# Altium footprint library actives.PcbLib: 34 footprints (part 1 of 3)
Each footprint in its own frame and in the unit in brackets; x right, y up, seen from the top. Pads: shape width x height; smd on the part's side, far side on the other; paste and mask are expansions set on the pad; w line width, h text height; cw(c..) or ccw(c..) is an arc to the next point about the centre after c.
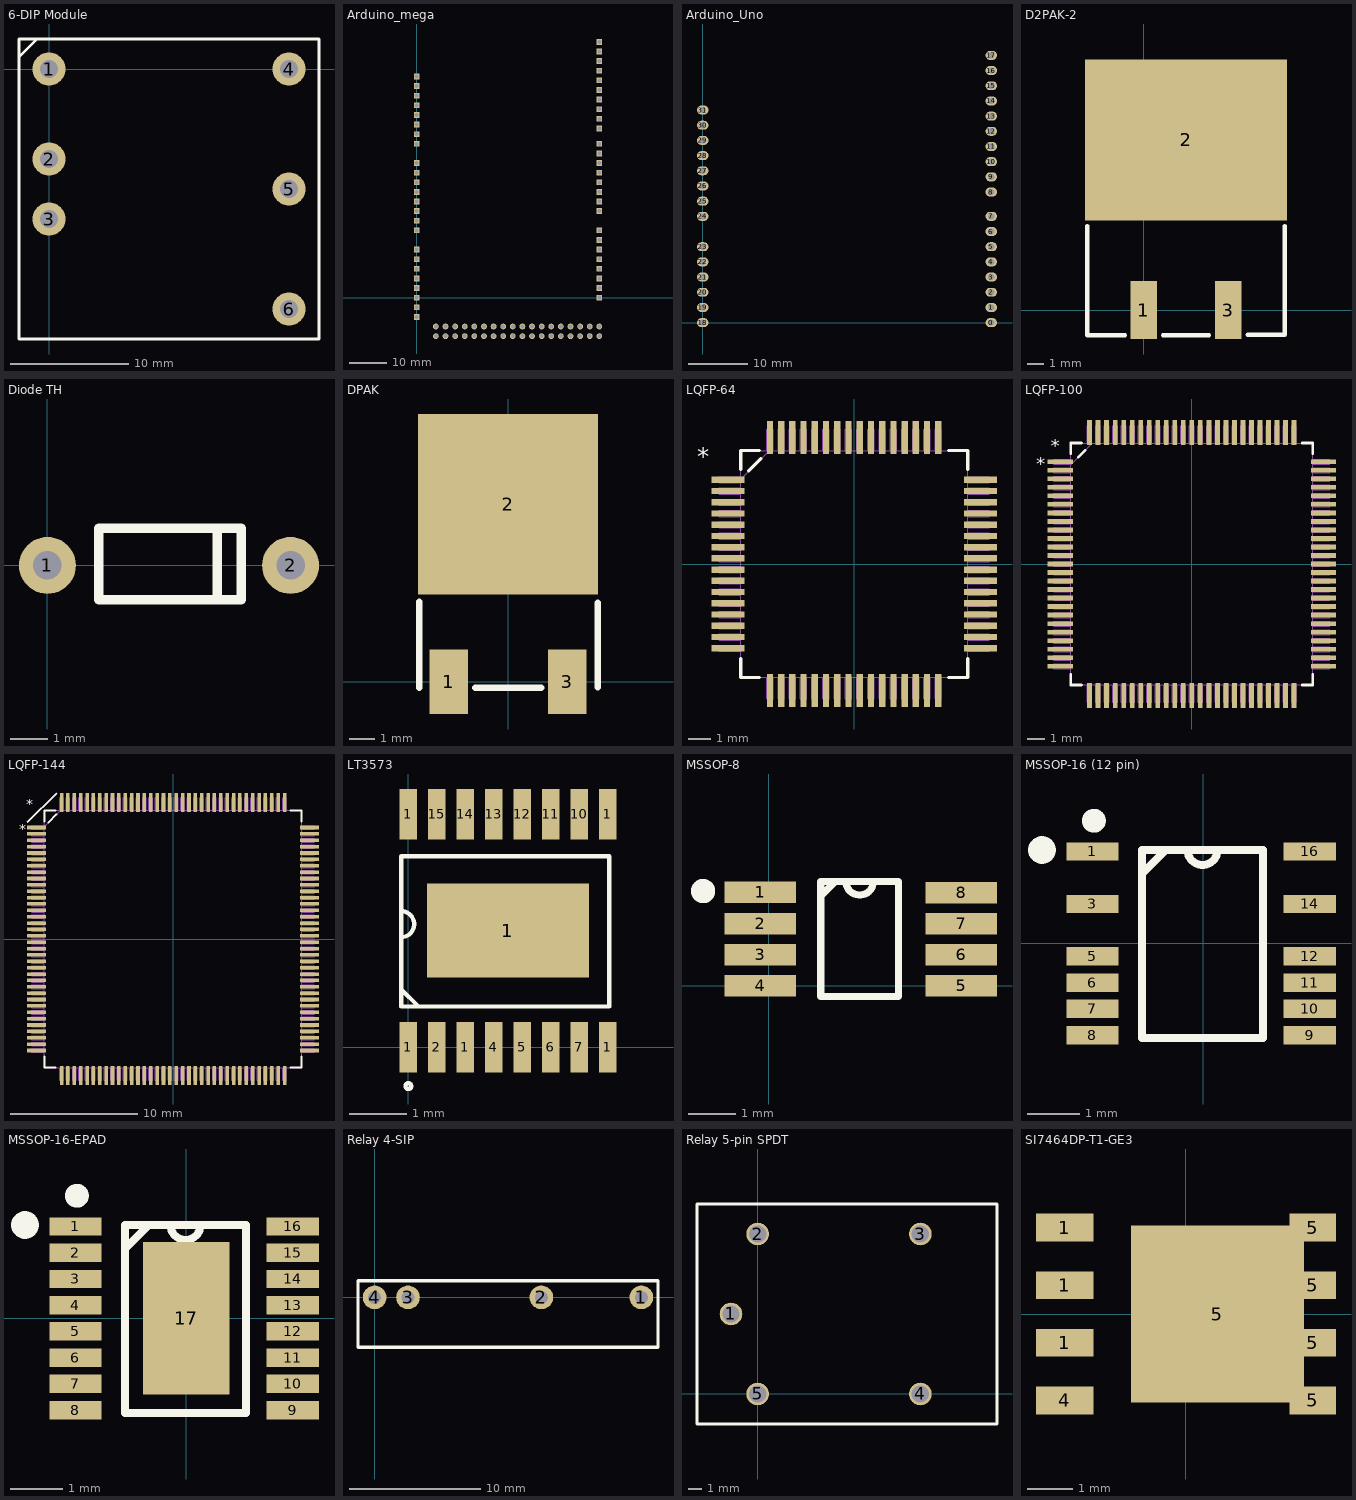
[diagram p0: the footprints below, top view; thin cyan lines are the x and y axes]

## 6-DIP Module [mm]
pads (6):
  round 2.8 hole 1.5: 1(0,0) 2(0,-7.62) 3(0,-12.7) 4(20.32,0) 5(20.32,-10.16) 6(20.32,-20.32)
Top Overlay:
  lines w0.075: -2.54,1.016 -2.54,0.711 -2.54,0.889 -2.515,0.889
  lines w0.254: -2.54,1.016 -1.016,2.54 ; -2.54,-22.86 22.86,-22.86 22.86,2.54 -2.54,2.54 -2.54,-22.86

## Arduino_mega [mil]
pads (86):
  rect 60x60 hole 41.3: 0(1900,900) 1(1900,1000) 2(1900,1100) 3(1900,1200) 4(1900,1300) 5(1900,1400) 6(1900,1500) 7(1900,1600) 8(1900,1760) 9(1900,1860) 10(1900,1960) 11(1900,2060) 12(1900,2160) 13(1900,2260) 14(1900,700) 15(1900,600) 16(1900,500) 17(1900,400) 18(1900,300) 19(1900,200) 20(1900,100) 21(1900,0) 54(1900,2660) 55(1900,2560) 56(1900,2460) 57(1900,2360) 62(0,2300) 63(0,2200) 64(0,2100) 65(0,2000) 66(0,1900) 67(0,1800) 68(0,1700) 69(0,1600) 70(0,1400) 71(0,1300) 72(0,1200) 73(0,1100) 74(0,1000) 75(0,900) 76(0,800) 77(0,700) 78(0,500) 79(0,400) 80(0,300) 81(0,200) 82(0,100) 83(0,0) 84(0,-100) 85(0,-200)
  round 60 hole 41.3: 22(1800,-400) 23(1800,-300) 24(1700,-400) 25(1700,-300) 26(1600,-400) 27(1600,-300) 28(1500,-400) 29(1500,-300) 30(1400,-400) 31(1400,-300) 32(1300,-400) 33(1300,-300) 34(1200,-400) 35(1200,-300) 36(1100,-400) 37(1100,-300) 38(1000,-400) 39(1000,-300) 40(900,-400) 41(900,-300) 42(800,-400) 43(800,-300) 44(700,-400) 45(700,-300) 46(600,-400) 47(600,-300) 48(500,-400) 49(500,-300) 50(400,-400) 51(400,-300) 52(300,-400) 53(300,-300) 58(1900,-400) 59(1900,-300) 60(200,-400) 61(200,-300)

## Arduino_Uno [mm]
pads (32):
  oval 1.92x1.5 hole 1.02: 0(48.26,0) 1(48.26,2.54) 2(48.26,5.08) 3(48.26,7.62) 4(48.26,10.16) 5(48.26,12.7) 6(48.26,15.24) 7(48.26,17.78) 8(48.26,21.844) 9(48.26,24.384) 10(48.26,26.924) 11(48.26,29.464) 12(48.26,32.004) 13(48.26,34.544) 14(48.26,37.084) 15(48.26,39.624) 16(48.26,42.164) 17(48.26,44.704) 18(0,0) 19(0,2.54) 20(0,5.08) 21(0,7.62) 22(0,10.16) 23(0,12.7) 24(0,17.78) 25(0,20.32) 26(0,22.86) 27(0,25.4) 28(0,27.94) 29(0,30.48) 30(0,33.02) 31(0,35.56)

## D2PAK-2 [mm]
pads (3):
  rect 1.6x3.5 smd: 1(0,0) 3(5.08,0)
  rect 12.2x9.75 smd: 2(2.54,10.275)
Top Overlay:
  lines w0.254: -3.429,5.08 -3.429,-1.524 -1.143,-1.524 ; 1.143,-1.524 3.937,-1.524 ; 6.274,-1.499 8.509,-1.499 8.509,5.08

## Diode TH [mil]
pads (2):
  round 60 hole 30: 1(0,0) 2(255.91,0)
Top Overlay:
  lines w10: 179,-31 179,39 ; 54,-36 204,-36 204,39 54,39 54,-36

## DPAK [mm]
pads (3):
  rect 1.5x2.5 smd: 1(-2.3,0) 3(2.3,0)
  rect 7x7 smd: 2(0,6.9)
Top Overlay:
  lines w0.254: -3.454,-0.229 -3.454,3.099 ; -1.27,-0.229 1.295,-0.229 ; 3.48,-0.203 3.48,3.073

## LQFP-64 [mil]
pads (64):
  rect 58x11 smd: 1(-221.5,147.64) 2(-221.5,127.95) 3(-221.5,108.27) 4(-221.5,88.58) 5(-221.5,68.9) 6(-221.5,49.21) 7(-221.5,29.53) 8(-221.5,9.84) 9(-221.5,-9.84) 10(-221.5,-29.53) 11(-221.5,-49.21) 12(-221.5,-68.9) 13(-221.5,-88.58) 14(-221.5,-108.27) 15(-221.5,-127.95) 16(-221.5,-147.64) 33(221.5,-147.64) 34(221.5,-127.95) 35(221.5,-108.27) 36(221.5,-88.58) 37(221.5,-68.9) 38(221.5,-49.21) 39(221.5,-29.53) 40(221.5,-9.84) 41(221.5,9.84) 42(221.5,29.53) 43(221.5,49.21) 44(221.5,68.9) 45(221.5,88.58) 46(221.5,108.27) 47(221.5,127.95) 48(221.5,147.64)
  rect 11x58 smd: 17(-147.64,-221.5) 18(-127.95,-221.5) 19(-108.27,-221.5) 20(-88.58,-221.5) 21(-68.9,-221.5) 22(-49.21,-221.5) 23(-29.53,-221.5) 24(-9.84,-221.5) 25(9.84,-221.5) 26(29.53,-221.5) 27(49.21,-221.5) 28(68.9,-221.5) 29(88.58,-221.5) 30(108.27,-221.5) 31(127.95,-221.5) 32(147.64,-221.5) 49(147.64,221.5) 50(127.95,221.5) 51(108.27,221.5) 52(88.58,221.5) 53(68.9,221.5) 54(49.21,221.5) 55(29.53,221.5) 56(9.84,221.5) 57(-9.84,221.5) 58(-29.53,221.5) 59(-49.21,221.5) 60(-68.9,221.5) 61(-88.58,221.5) 62(-108.27,221.5) 63(-127.95,221.5) 64(-147.64,221.5)
Top Overlay:
  lines w6: -199,-166.24 -199,-199 -166.24,-199 ; -199,166.24 -199,199 -166.24,199 ; -184.49,163.51 -163.51,184.49 ; 166.24,-199 199,-199 199,-166.24 ; 166.24,199 199,199 199,166.24
  text "*" at -275.5,172.48 h31.25
Outline:
  drawing of 261 lines, arcs and shapes, not listed
  text "*" at -275.5,172.48 h31.25
3D body: height 59.06, standoff 0, extent -236.22,-236.22 236.22,236.22

## LQFP-100 [mil]
pads (100):
  rect 58x11 smd: 1(-304,236.22) 2(-304,216.54) 3(-304,196.85) 4(-304,177.17) 5(-304,157.48) 6(-304,137.8) 7(-304,118.11) 8(-304,98.43) 9(-304,78.74) 10(-304,59.06) 11(-304,39.37) 12(-304,19.69) 13(-304,0) 14(-304,-19.68) 15(-304,-39.37) 16(-304,-59.06) 17(-304,-78.74) 18(-304,-98.43) 19(-304,-118.11) 20(-304,-137.8) 21(-304,-157.48) 22(-304,-177.17) 23(-304,-196.85) 24(-304,-216.54) 25(-304,-236.22) 51(304,-236.22) 52(304,-216.54) 53(304,-196.85) 54(304,-177.17) 55(304,-157.48) 56(304,-137.8) 57(304,-118.11) 58(304,-98.43) 59(304,-78.74) 60(304,-59.06) 61(304,-39.37) 62(304,-19.68) 63(304,0) 64(304,19.68) 65(304,39.37) 66(304,59.06) 67(304,78.74) 68(304,98.43) 69(304,118.11) 70(304,137.8) 71(304,157.48) 72(304,177.17) 73(304,196.85) 74(304,216.54) 75(304,236.22)
  rect 11x58 smd: 26(-236.22,-304) 27(-216.54,-304) 28(-196.85,-304) 29(-177.17,-304) 30(-157.48,-304) 31(-137.8,-304) 32(-118.11,-304) 33(-98.43,-304) 34(-78.74,-304) 35(-59.06,-304) 36(-39.37,-304) 37(-19.68,-304) 38(0,-304) 39(19.68,-304) 40(39.37,-304) 41(59.06,-304) 42(78.74,-304) 43(98.43,-304) 44(118.11,-304) 45(137.8,-304) 46(157.48,-304) 47(177.17,-304) 48(196.85,-304) 49(216.54,-304) 50(236.22,-304) 76(236.22,304) 77(216.54,304) 78(196.85,304) 79(177.17,304) 80(157.48,304) 81(137.8,304) 82(118.11,304) 83(98.43,304) 84(78.74,304) 85(59.06,304) 86(39.37,304) 87(19.68,304) 88(0,304) 89(-19.68,304) 90(-39.37,304) 91(-59.06,304) 92(-78.74,304) 93(-98.43,304) 94(-118.11,304) 95(-137.8,304) 96(-157.48,304) 97(-177.17,304) 98(-196.85,304) 99(-216.54,304) 100(-236.22,304)
Top Overlay:
  lines w6: -279.5,-254.82 -279.5,-279.5 -254.82,-279.5 ; -279.5,254.82 -279.5,279.5 -254.82,279.5 ; -262.72,246.28 -246.28,262.72 ; 254.82,-279.5 279.5,-279.5 279.5,-254.82 ; 254.82,279.5 279.5,279.5 279.5,254.82
  text "*" at -326,257 h31.25
  text "*" at -360,215.06 h31.25
Outline:
  drawing of 405 lines, arcs and shapes, not listed
  text "*" at -358,261.06 h31.25
3D body: height 59.06, standoff 0, extent -314.96,-314.96 314.96,314.96

## LQFP-144 [mil]
pads (144):
  rect 58x11 smd: 1(-422,344.49) 2(-422,324.8) 3(-422,305.12) 4(-422,285.43) 5(-422,265.75) 6(-422,246.06) 7(-422,226.38) 8(-422,206.69) 9(-422,187.01) 10(-422,167.32) 11(-422,147.64) 12(-422,127.95) 13(-422,108.27) 14(-422,88.58) 15(-422,68.9) 16(-422,49.21) 17(-422,29.53) 18(-422,9.84) 19(-422,-9.84) 20(-422,-29.53) 21(-422,-49.21) 22(-422,-68.9) 23(-422,-88.58) 24(-422,-108.27) 25(-422,-127.95) 26(-422,-147.64) 27(-422,-167.32) 28(-422,-187.01) 29(-422,-206.69) 30(-422,-226.38) 31(-422,-246.06) 32(-422,-265.75) 33(-422,-285.43) 34(-422,-305.12) 35(-422,-324.8) 36(-422,-344.49) 73(422,-344.49) 74(422,-324.8) 75(422,-305.12) 76(422,-285.43) 77(422,-265.75) 78(422,-246.06) 79(422,-226.38) 80(422,-206.69) 81(422,-187.01) 82(422,-167.32) 83(422,-147.64) 84(422,-127.95) 85(422,-108.27) 86(422,-88.58) 87(422,-68.9) 88(422,-49.21) 89(422,-29.53) 90(422,-9.84) 91(422,9.84) 92(422,29.53) 93(422,49.21) 94(422,68.9) 95(422,88.58) 96(422,108.27) 97(422,127.95) 98(422,147.64) 99(422,167.32) 100(422,187.01) 101(422,206.69) 102(422,226.38) 103(422,246.06) 104(422,265.75) 105(422,285.43) 106(422,305.12) 107(422,324.8) 108(422,344.49)
  rect 11x58 smd: 37(-344.49,-422) 38(-324.8,-422) 39(-305.12,-422) 40(-285.43,-422) 41(-265.75,-422) 42(-246.06,-422) 43(-226.38,-422) 44(-206.69,-422) 45(-187.01,-422) 46(-167.32,-422) 47(-147.64,-422) 48(-127.95,-422) 49(-108.27,-422) 50(-88.58,-422) 51(-68.9,-422) 52(-49.21,-422) 53(-29.53,-422) 54(-9.84,-422) 55(9.84,-422) 56(29.53,-422) 57(49.21,-422) 58(68.9,-422) 59(88.58,-422) 60(108.27,-422) 61(127.95,-422) 62(147.64,-422) 63(167.32,-422) 64(187.01,-422) 65(206.69,-422) 66(226.38,-422) 67(246.06,-422) 68(265.75,-422) 69(285.43,-422) 70(305.12,-422) 71(324.8,-422) 72(344.49,-422) 109(344.49,422) 110(324.8,422) 111(305.12,422) 112(285.43,422) 113(265.75,422) 114(246.06,422) 115(226.38,422) 116(206.69,422) 117(187.01,422) 118(167.32,422) 119(147.64,422) 120(127.95,422) 121(108.27,422) 122(88.58,422) 123(68.9,422) 124(49.21,422) 125(29.53,422) 126(9.84,422) 127(-9.84,422) 128(-29.53,422) 129(-49.21,422) 130(-68.9,422) 131(-88.58,422) 132(-108.27,422) 133(-127.95,422) 134(-147.64,422) 135(-167.32,422) 136(-187.01,422) 137(-206.69,422) 138(-226.38,422) 139(-246.06,422) 140(-265.75,422) 141(-285.43,422) 142(-305.12,422) 143(-324.8,422) 144(-344.49,422)
Top Overlay:
  lines w3.94: -450,360 -360,450
  lines w6: -397.5,-363.09 -397.5,-397.5 -363.09,-397.5 ; -397.5,363.09 -397.5,397.5 -363.09,397.5 ; -384.8,360.2 -360.2,384.8 ; 363.09,-397.5 397.5,-397.5 397.5,-363.09 ; 363.09,397.5 397.5,397.5 397.5,363.09
  text "*" at -476,323.33 h31.25
  text "*" at -454,400.33 h31.25
Outline:
  drawing of 581 lines, arcs and shapes, not listed
  text "*" at -476,323.33 h31.25
  text "*" at -454,400.33 h31.25
3D body: height 66.93, standoff 0, extent -433.07,-433.07 433.08,433.07

## LT3573 [mm]
pads (17):
  rect 0.305x0.889 smd: 1(0,0) 1(0,4.089) 1(1,0) 1(3.5,0) 1(3.5,4.089) 2(0.5,0) 4(1.5,0) 5(2,0) 6(2.5,0) 7(3,0) 10(3,4.089) 11(2.5,4.089) 12(2,4.089) 13(1.5,4.089) 14(1,4.089) 15(0.5,4.089)
  rect 2.845x1.651 smd: 1(1.75,2.044)
Top Overlay:
  circle w0.075: c0,-0.686 r0.051
  lines w0.075: -0.127,1.041 -0.127,1.016 0.178,0.711 ; -0.127,1.93 ccw(c-0.127,2.159) -0.127,2.388 ; -0.127,0.711 -0.127,3.353 3.531,3.353 3.531,0.711 -0.127,0.711

## MSSOP-8 [mm]
pads (8):
  rect 1.5x0.45 smd: 1(-0.178,1.956) 2(-0.178,1.3) 3(-0.178,0.65) 4(-0.178,0) 5(4.029,0) 6(4.029,0.65) 7(4.029,1.3) 8(4.029,1.95)
Top Overlay:
  circle w0.254: c-1.372,1.981 r0.127
  lines w0.15: 1.092,1.88 1.397,2.184 ; 1.618,2.184 ccw(c1.905,2.184) 2.192,2.184 ; 1.092,-0.229 2.718,-0.229 2.718,2.184 1.092,2.184 1.092,-0.229
3D body: height 1.1, standoff 0, extent -0.595,-0.56 4.405,2.44

## MSSOP-16 (12 pin) [mm]
pads (12):
  rect 1x0.35 smd: 1(-2.11,1.75) 3(-2.11,0.75) 5(-2.11,-0.25) 6(-2.11,-0.75) 7(-2.11,-1.25) 8(-2.11,-1.75) 9(2.032,-1.75) 10(2.032,-1.25) 11(2.032,-0.75) 12(2.032,-0.25) 14(2.032,0.75) 16(2.032,1.75)
Top Overlay:
  circle w0.3: c-2.083,2.337 r0.076
  circle w0.3: c-3.073,1.778 r0.114
  lines w0.15: -1.168,1.27 -1.168,1.295 -1.168,1.321 -0.711,1.778 ; -0.298,1.778 ccw(c-0.013,1.778) 0.273,1.778 ; -1.168,-1.803 -1.168,1.778 1.143,1.778 1.143,-1.803 -1.168,-1.803
3D body: height 1.1, standoff 0, extent -2.475,-2.261 2.425,2.239

## MSSOP-16-EPAD [mm]
pads (17):
  rect 1x0.35 smd: 1(-2.11,1.75) 2(-2.11,1.25) 3(-2.11,0.75) 4(-2.11,0.25) 5(-2.11,-0.25) 6(-2.11,-0.75) 7(-2.11,-1.25) 8(-2.11,-1.75) 9(2.032,-1.75) 10(2.032,-1.25) 11(2.032,-0.75) 12(2.032,-0.25) 13(2.032,0.25) 14(2.032,0.75) 15(2.032,1.25) 16(2.032,1.75)
  rect 1.651x2.9 smd: 17(0,0)
Top Overlay:
  circle w0.3: c-2.083,2.337 r0.076
  circle w0.3: c-3.073,1.778 r0.114
  lines w0.15: -1.168,1.27 -1.168,1.295 -1.168,1.321 -0.711,1.778 ; -0.298,1.778 ccw(c-0.013,1.778) 0.273,1.778 ; -1.168,-1.803 -1.168,1.778 1.143,1.778 1.143,-1.803 -1.168,-1.803
3D body: height 1.1, standoff 0, extent -2.475,-2.261 2.425,2.239

## Relay 4-SIP [mm]
pads (4):
  round 1.8 hole 1: 1(20.32,0) 2(12.7,0) 3(2.54,0) 4(0,0)
Top Overlay:
  lines w0.254: -1.27,-3.81 -1.27,1.27 21.59,1.27 21.59,-3.81 -1.27,-3.81

## Relay 5-pin SPDT [mm]
pads (5):
  round 1.7 hole 1.31: 1(-2,6) 2(0,12) 3(12.2,12) 4(12.2,0) 5(0,0)
Top Overlay:
  lines w0.254: -4.55,-2.25 -4.55,14.25 17.95,14.25 17.95,-2.25 -4.55,-2.25

## SI7464DP-T1-GE3 [mm]
pads (9):
  rect 1.27x0.61 smd: 1(-2.67,-0.635) 1(-2.67,0.635) 1(-2.67,1.905) 4(-2.67,-1.905)
  rect 3.81x3.91 smd: 5(0.69,0)
  rect 1.02x0.61 smd: 5(2.795,-1.905) 5(2.795,-0.635) 5(2.795,0.635) 5(2.795,1.905)
3D body: height 1, standoff 0, extent -2.934,-2.535 3.086,2.485